# Altium schematic symbol library SCH - BUFFERS - TI SN74LVC1G07 5PIN.SCHLIB: 1 symbol
Pins are listed as number, name and electrical type; pins without a type are passive.

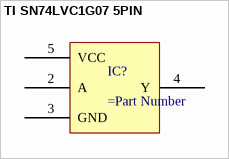
[diagram p0: symbol TI SN74LVC1G07 5PIN]

## TI SN74LVC1G07 5PIN
designator IC?
pins: 2 A, 3 GND, 4 Y, 5 VCC